# Altium schematic symbol library Diodes.SchLib: 10 symbols
Pins are listed as number, name and electrical type; pins without a type are passive.

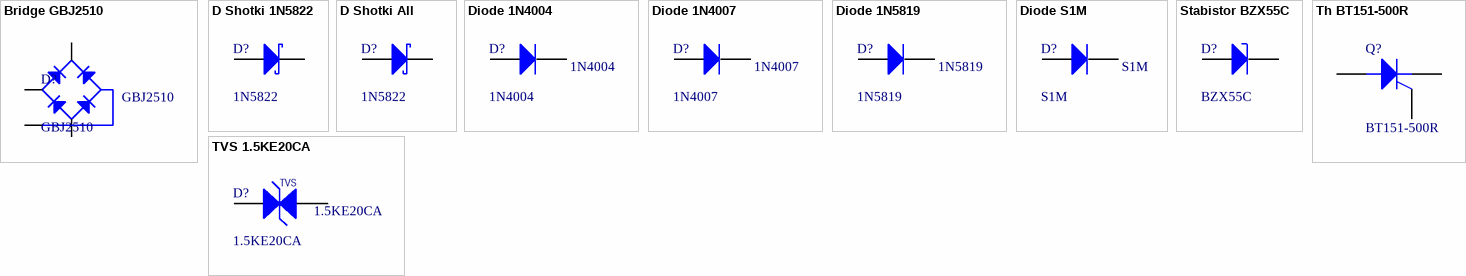
[diagram p0: symbols Bridge GBJ2510 to TVS 1.5KE20CA]

## Bridge GBJ2510
designator D?, comment GBJ2510
25 A Diode Bridge; Voltage: 1000V; I: 25A; Voltage Reverse: 700V; PackageReference: GBJ; ComponentLink2Description: Datasheet; ComponentLink2URL: http://lib.chipdip.ru/921/DOC000921742.pdf; VALUE: GBJ2510
footprint GBJ (Diode Bridge GBJ case)
pins: G, P Ph, V, Z

## D Shotki 1N5822
designator D?, comment 1N5822
3 Amp Shotki  Diode; PackageReference: DO-201; VALUE: 1N5822
footprint Diode DO-201 (p6)
footprint Diode DO-201 V (6p, p15.24mm)
pins: A, K

## D Shotki All
designator D?, comment 1N5822
Shotki  Diode; PackageReference: DO-201; VALUE: 1N5822
footprint Diode DO-35 (p7.62mm)
footprint Diode DO-41 (p10.16mm)
footprint Diode DO-201 (p6)
footprint Diode DO-201 V (6p, p15.24mm)
footprint DO-214AB (SMC)
footprint DO-214AC (SMA)
footprint DO-214AA (SMB)
footprint Diode DO-35 - Vertical (p7.62mm)
footprint Diode DO-41 - Vertical (p10.16mm)
footprint Diode DO-41 - Vertical p5.08 (p10.16mm)
footprint DO-214AA (SMA) Compact
pins: A, K

## Diode 1N4004
designator D?, comment 1N4004
1 Amp General Purpose Rectifier; PackageReference: DO-41; PackageDescription: Diode, Axial; Body 5.2 x 2.7 mm (LxDia. max), Lead Dia. 0.86 mm (max); Code_JEDEC: DO-204-AL; ComponentLink1Description: Manufacturer Link; ComponentLink1URL: http://www.fairchildsemi.com/; ComponentLink2Description: Datasheet; ComponentLink2URL: http://www.fairchildsemi.com/ds/1N%2F1N4001.pdf; VALUE: 1N4004
simulation model 1N4004 (DIODE)
signal-integrity model 1N4004
footprint Diode DO-35 (p7.62mm)
pins: A, K

## Diode 1N4007
designator D?, comment 1N4007
1A 1000V выпрямительный; PackageReference: DO-41; PackageDescription: Diode, Axial; Body 5.2 x 2.7 mm (LxDia. max), Lead Dia. 0.86 mm (max); Code_JEDEC: DO-204-AL; ComponentLink1Description: Manufacturer Link; ComponentLink1URL: http://www.fairchildsemi.com/; ComponentLink2Description: Datasheet; ComponentLink2URL: https://static.chipdip.ru/lib/046/DOC003046657.pdf; VALUE: 1N4007
footprint Diode DO-35 (p7.62mm)
pins: A, K

## Diode 1N5819
designator D?, comment 1N5819
1 Amp General Purpose Rectifier; PackageReference: DO-41; VALUE: 1N5819
simulation model 1N4004 (DIODE)
signal-integrity model 1N4004
footprint Diode DO-35 (p7.62mm)
pins: A, K

## Diode S1M
designator D?, comment S1M
1 Amp General Purpose Rectifier; Maximum Repetitive Reverse Voltage: 1000V; IF(AV) Average Rectified Forward Current: 1A; PackageReference: DO-214AC; VALUE: S1M
footprint DO-214AC (SMA)
pins: A, K

## Stabistor BZX55C
designator D?, comment BZX55C
Stabistor 10V. 0.5W, Glass; Power Dissipation: 500 mW; Thermal Resistance  Junction to Ambient: 0.3 K/mW; Forward Voltage @IF= 100mA: 1.0 V; VZ Tolerance: 5 %; Zener Voltage: 10 V; PackageReference: DO-35; VALUE: BZX55C; DataSheet: http://rectron.apls.ru/assets/images/pdf/bzx55c.pdf
footprint Diode DO-35 (p7.62mm)
pins: A, K

## Th BT151-500R
designator Q?, comment BT151-500R
Thyristor; I: 7.5A; U Rev Max: 500V; PackageReference: TO-220-AB; Code_JEDEC: TO-220-AB; Name: BT151-500R
simulation model SCR (Spice Subcircuit)
footprint TO220-2 Horisontal
footprint TO220-2
pins: 1 K, 2 A, 3 G

## TVS 1.5KE20CA
designator D?, comment 1.5KE20CA
1500W Transil (TVS Diode); Stand-Off V: 17.1; Load A: 5; Breakdown V: min 19 max 21; PackageReference: DO-201; Pulse Power: 1500W; VALUE: 1.5KE20CA
footprint TVS diode DO-201 (6p, p15.24mm)
footprint TVS diode DO-201 (Short) (5p, p12.7mm)
footprint TVS diode DO-201 V (6p, p15.24mm)
pins: 1, 2
text: TVS